# Altium schematic symbol library myLIBintetegrated.SCHLIB: 1 symbol
Pins are listed as number, name and electrical type; pins without a type are passive.

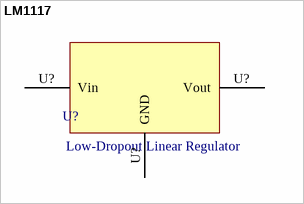
[diagram p0: symbol LM1117]

## LM1117
designator U?, comment Low-Dropout Linear Regulator
The LM1117 is a low dropout voltage regulator with a / dropout of 1.2 V at 800 mA of load current. / The LM1117 is available in an adjustable version, / which can set the output voltage from 1.25 V to 13.8 V / with only two external resistors. In addition, the device / is available in five fixed voltages, 1.8 V, 2.5 V, 3.3 V, / and 5 V. / The LM1117 offers current limiting and thermal / shutdown. The circuit includes a Zener trimmed band- / gap reference to assure output voltage accuracy to / within ±1%. / A minimum of 10-μF tantalum capacitor is required / at the output to improve the transient response and / stability.; Output voltage: 3.3V; ComponentLink1Description: Datasheet; ComponentLink1URL: https://www.ti.com/lit/ds/symlink/lm1117.pdf?ts=1696576079534&ref_url=https%253A%252F%252Fwww.google.com%252F
pins: U? Vout, U? GND, U? Vin